# EAGLE library part TFT-DISPLAY-2.6-37PIN (library tftdisplays)
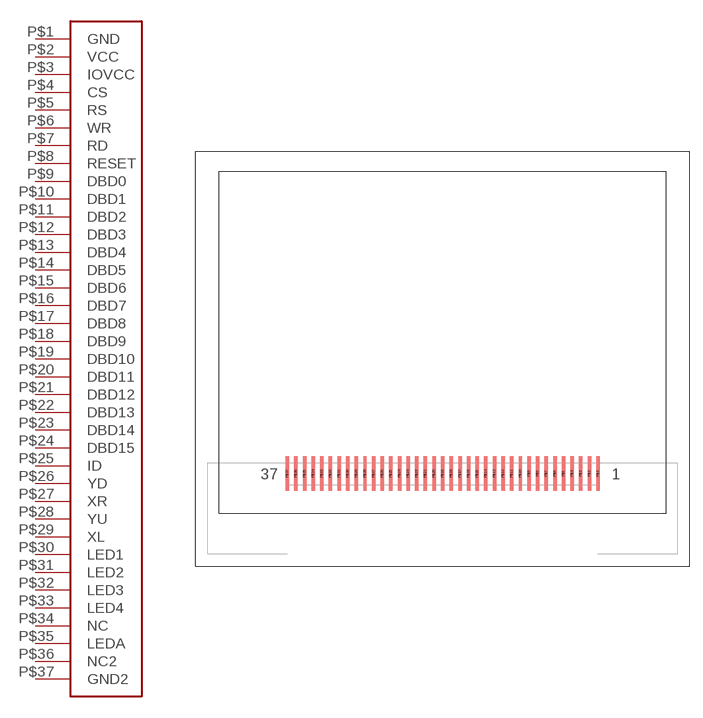
[diagram p5: symbol with the pads of TFT-DISPLAY-2.6-37PIN; footprint TFT-DISPLAY-2.6-37PIN]

Designator prefix -

## TFT-DISPLAY-2.6-37PIN  [TFT-DISPLAY-2.6-37PIN]
P$1  GND
P$2  VCC
P$3  IOVCC
P$4  CS
P$5  RS
P$6  WR
P$7  RD
P$8  RESET
P$9  DBD0
P$10  DBD1
P$11  DBD2
P$12  DBD3
P$13  DBD4
P$14  DBD5
P$15  DBD6
P$16  DBD7
P$17  DBD8
P$18  DBD9
P$19  DBD10
P$20  DBD11
P$21  DBD12
P$22  DBD13
P$23  DBD14
P$24  DBD15
P$25  ID
P$26  YD
P$27  XR
P$28  YU
P$29  XL
P$30  LED1
P$31  LED2
P$32  LED3
P$33  LED4
P$34  NC
P$35  LEDA
P$36  NC2
P$37  GND2

## Footprint TFT-DISPLAY-2.6-37PIN (pad centres in mm)
smd 0.4 x 4: P$1 18,-13.261; P$2 17,-13.261; P$3 16,-13.261; P$4 15,-13.261; P$5 14,-13.261; P$6 13,-13.261; P$7 12,-13.261; P$8 11,-13.261; P$9 10,-13.261; P$10 9,-13.261; P$11 8,-13.261; P$12 7,-13.261; P$13 6,-13.261; P$14 5,-13.261; P$15 4,-13.261; P$16 3,-13.261; P$17 2,-13.261; P$18 1,-13.261; P$19 0,-13.261; P$20 -1,-13.261; P$21 -2,-13.261; P$22 -3,-13.261; P$23 -4,-13.261; P$24 -5,-13.261; P$25 -6,-13.261; P$26 -7,-13.261; P$27 -8,-13.261; P$28 -9,-13.261; P$29 -10,-13.261; P$30 -11,-13.261; P$31 -12,-13.261; P$32 -13,-13.261; P$33 -14,-13.261; P$34 -15,-13.261; P$35 -16,-13.261; P$36 -17,-13.261; P$37 -18,-13.261